# EAGLE library part HCF4013BM1 (library ST Microelctronics_By_element14_Batch_1)
NAND GATES
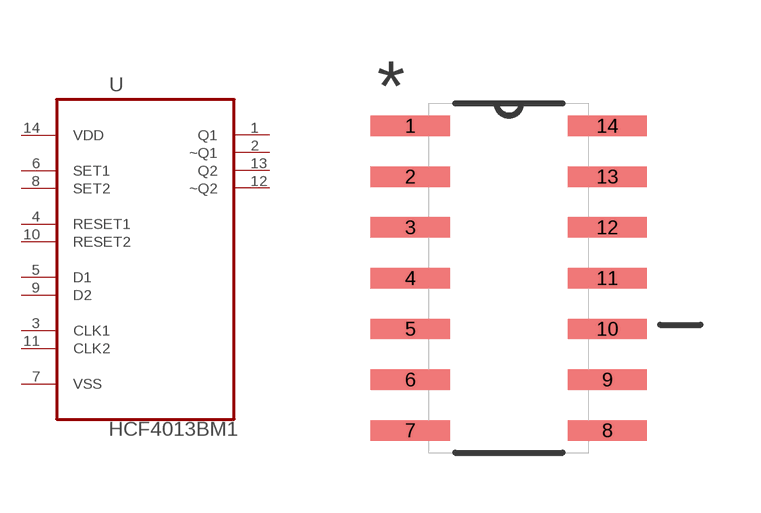
[diagram p9: symbol with the pads of SOP127P600X175-14N; footprint SOP127P600X175-14N]

Designator prefix U

## HCF4013BM1 (MPN: HCF4013BM1; OC_FARNELL: 1094187; OC_NEWARK: 25M9581; PACKAGE: SOP-14; SUPPLIER: STMICROELECTRONICS)  [SOP127P600X175-14N]
1  Q1  out
2  ~Q1  out
3  CLK1  in
4  RESET1  in
5  D1  in
6  SET1  in
7  VSS  pas
8  SET2  in
9  D2  in
10  RESET2  in
11  CLK2  in
12  ~Q2  out
13  Q2  out
14  VDD  pwr

## Footprint SOP127P600X175-14N (pad centres in mm)
smd 1.981 x 0.508: 1 -2.464,3.81; 2 -2.464,2.54; 3 -2.464,1.27; 4 -2.464,0; 5 -2.464,-1.27; 6 -2.464,-2.54; 7 -2.464,-3.81; 8 2.464,-3.81; 9 2.464,-2.54; 10 2.464,-1.27; 11 2.464,0; 12 2.464,1.27; 13 2.464,2.54; 14 2.464,3.81